# Altium schematic symbol library MS IMP Library.SchLib: 375 symbols (part 9 of 9)
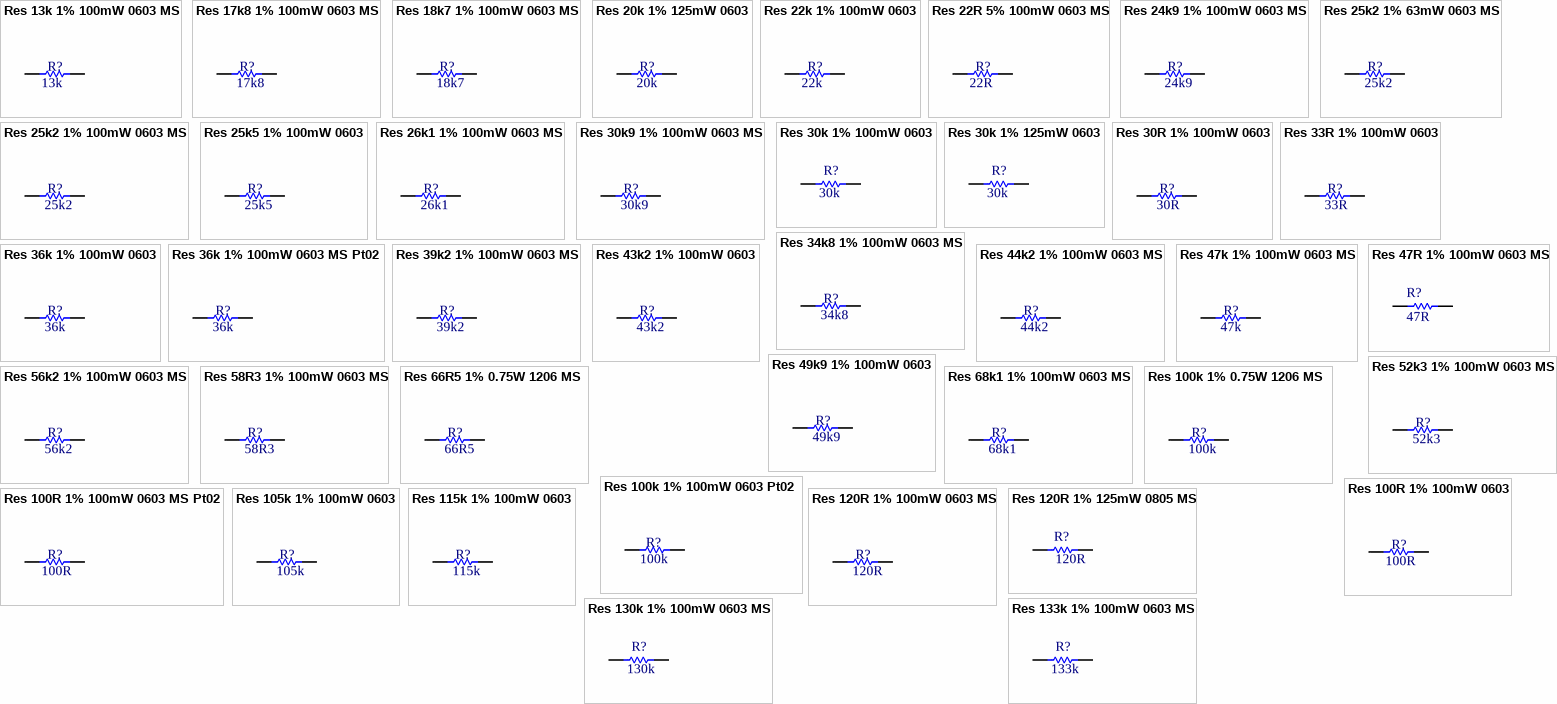
[diagram p30: symbols Res 13k 1% 100mW 0603 MS to Res 133k 1% 100mW 0603 MS]

## Res 115k 1% 100mW 0603
designator R?, comment Resistance: 115k  (hidden comment: Resistor)
Resistor 115k 1% 100mW 0603; Manufacturer: Yageo; Manufacturer Part Number: RMCF0603FT115K; Temperature Coefficient: ±100ppm/°C; Production Status: Active; Distributor: Digi-Key; Distributor Part Number: RMCF0603FT115KCT-ND; Last Revision Date: 19.10.2020.; Temperature Range: -55°C ~ +155°C; Mounting: SMD; ComponentLink1Description: Datasheet; ComponentLink1URL: https://www.seielect.com/catalog/sei-rmcf_rmcp.pdf; ComponentLink2Description: Distributor; ComponentLink2URL: https://www.digikey.com/en/products/detail/stackpole-electronics-inc/rmcf0603ft115k/1761225; ComponentLink3Description: Manufacturer; ComponentLink3URL: https://www.seielect.com/; Status: Not Checked; Power Rating: 100mW; Tolerance: ±1%; DB Parameter 1: 115k; DB Parameter 2: ±1%; DB Parameter 3: 100mW
footprint R0603L 0.45MM MS (Chip Resistor, Body 1.6x0.8mm, IPC High Density)
pins: 1, 2

## Res 120R 1% 100mW 0603 MS
designator R?, comment Resistance: 120R  (hidden comment: Resistor)
Resistor 120R 1% 100mW 0603; Manufacturer: TE Connectivity / Holsworthy; Manufacturer Part Number: CRGCQ0603F120R; Temperature Coefficient: ±100ppm/°C; Production Status: Active; Distributor: Mouser; Distributor Part Number: 279-CRGCQ0603F120R; Last Revision Date: 14.07.2022; Temperature Range: -55°C ~ +125°C; Mounting: SMD; ComponentLink1Description: Datasheet; ComponentLink1URL: https://www.te.com/usa-en/product-1-2176339-4.html; ComponentLink2Description: Distributor; ComponentLink2URL: https://eu.mouser.com/ProductDetail/TE-Connectivity-Holsworthy/CRGCQ0603F120R?qs=wUXugUrL1qyCBeA7N62GsQ%3D%3D; ComponentLink3Description: Manufacturer; ComponentLink3URL: https://www.te.com/usa-en/product-1-2176339-4.html; Status: Not Checked; Power Rating: 100mW; Tolerance: ±1%; DB Parameter 1: 120R; DB Parameter 2: ±1%; DB Parameter 3: 100mW
footprint R0603L 0.45MM MS (Chip Resistor, Body 1.6x0.8mm, IPC High Density)
pins: 1, 2

## Res 120R 1% 125mW 0805 MS
designator R?, comment Resistance: 120R  (hidden comment: Resistor)
Resistor  120R 125mW 0805; Manufacturer: Panasonic Electronic Components; Manufacturer Part Number: ERJ-P06J121V; Tolerance: ±1%; Production Status: Active; Distributor: Digi-Key; Distributor Part Number: P120ADCT-ND; Last Revision Date: 19.07.2021; Temperature Range: -55°C ~ +155°C; Mounting: SMD; ComponentLink1Description: Datasheet; ComponentLink1URL: https://industrial.panasonic.com/cdbs/www-data/pdf/RDO0000/AOA0000C331.pdf; ComponentLink2Description: Distributor; ComponentLink2URL: https://www.digikey.com/en/products/detail/panasonic-electronic-components/ERJ-P06J121V/525207; ComponentLink3Description: Manufacturer; ComponentLink3URL: https://na.industrial.panasonic.com/products/resistors/smd-chip-resistors/lineup/high-power-anti-surge-high-voltage/series/36033/model/38481; Status: Not Checked; Power Rating: 125mW; DB Parameter 1: 120R; DB Parameter 2: 125mW
footprint 0805 R 0.5mm MS (Resistor 0805 0.5mm)
pins: 1, 2

## Res 130k 1% 100mW 0603 MS
designator R?, comment Resistance: 130k  (hidden comment: Resistor)
Resistor 130k 1% 100mW 0603; Manufacturer: Panasonic Electronic Components; Manufacturer Part Number: RC0603FR-07130KL; Temperature Coefficient: ±100 PPM/°C; Production Status: Active; Distributor: Digi-Key; Distributor Part Number: 311-130KHRCT-ND; Last Revision Date: 28.09.2021; Temperature Range: -55°C ~ +155°C; Mounting: SMD; ComponentLink1Description: Datasheet; ComponentLink1URL: https://www.yageo.com/upload/media/product/productsearch/datasheet/rchip/PYu-RC_Group_51_RoHS_L_11.pdf; ComponentLink2Description: Distributor; ComponentLink2URL: https://www.digikey.com/en/products/detail/yageo/RC0603FR-07130KL/726935; ComponentLink3Description: Manufacturer; ComponentLink3URL: https://www.yageo.com/en/ProductSearch/PartNumberSearch?part_number=RC0603FR-07130KL; Status: Not Checked; Power Rating: 100mW; Tolerance: ±1%; DB Parameter 1: 130k; DB Parameter 2: 100mW; DB Parameter 3: ±1%
footprint R0603L 0.45MM MS (Chip Resistor, Body 1.6x0.8mm, IPC High Density)
pins: 1, 2

## Res 133k 1% 100mW 0603 MS
designator R?, comment Resistance: 133k  (hidden comment: Resistor)
Resistor 133k 1% 100mW 0603; Manufacturer: Panasonic; Manufacturer Part Number: ERJ-3EKF1333V; Temperature Coefficient: ±100 PPM/°C; Production Status: Active; Distributor: Mouser; Distributor Part Number: 667-ERJ-3EKF1333V; Last Revision Date: 16.11.2021; Temperature Range: -55°C ~ +155°C; Mounting: SMD; ComponentLink1Description: Datasheet; ComponentLink1URL: https://eu.mouser.com/datasheet/2/315/AOA0000C304-1149620.pdf; ComponentLink2Description: Distributor; ComponentLink2URL: https://eu.mouser.com/ProductDetail/Panasonic/ERJ-3EKF1333V?qs=%2Fha2pyFaduj1bDH1zHognWbTNWkdyroVjLsiVDy0i%2FB5Rdgfj5TXfw%3D%3D; ComponentLink3Description: Manufacturer; ComponentLink3URL: https://na.industrial.panasonic.com/products/resistors/smd-chip-resistors/lineup/chip-resistors/series/57494/model/66450; Status: Not Checked; Power Rating: 100mW; Tolerance: ±1%; DB Parameter 1: 133k; DB Parameter 2: 100mW; DB Parameter 3: ±1%
footprint R0603L 0.45MM MS (Chip Resistor, Body 1.6x0.8mm, IPC High Density)
pins: 1, 2

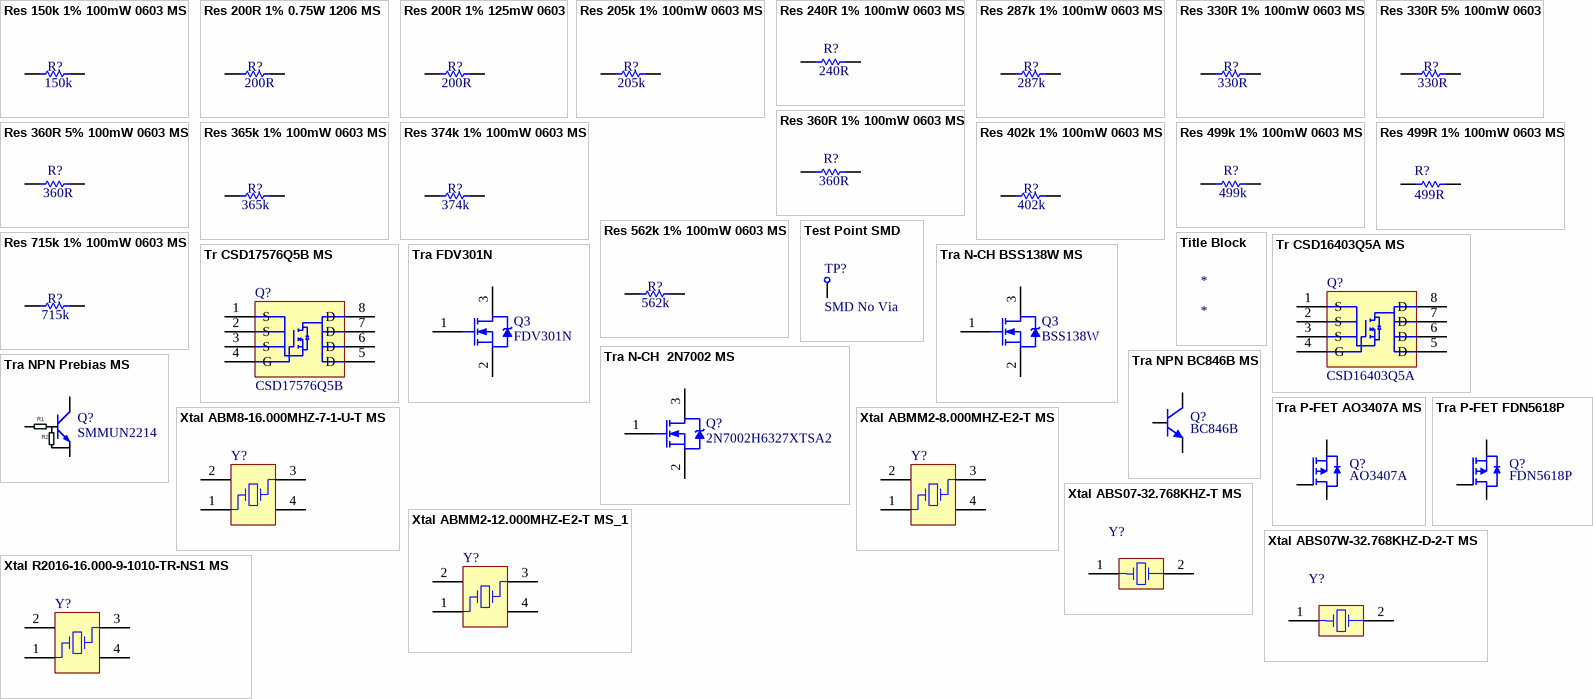
[diagram p22: symbols Res 150k 1% 100mW 0603 MS to Xtal R2016-16.000-9-1010-TR-NS1 MS]

## Res 150k 1% 100mW 0603 MS
designator R?, comment Resistance: 150k  (hidden comment: Resistor)
Resistor 150k 1% 100mW 0603; Manufacturer: YAGEO; Manufacturer Part Number: RC0603FR-07150KL; Temperature Coefficient: ±100ppm/°C; Production Status: Active; Distributor: Digi-Key; Distributor Part Number: 311-150KHRCT-ND; Last Revision Date: 11.09.2021; Temperature Range: -55°C ~ +155°C; Mounting: SMD; ComponentLink1Description: Datasheet; ComponentLink1URL: https://www.yageo.com/upload/media/product/productsearch/datasheet/rchip/PYu-RC_Group_51_RoHS_L_11.pdf; ComponentLink2Description: Distributor; ComponentLink2URL: https://www.digikey.com/en/products/detail/yageo/RC0603FR-07150KL/726959; ComponentLink3Description: Manufacturer; ComponentLink3URL: https://www.yageo.com/en/ProductSearch/PartNumberSearch?part_number=RC0603FR-07150KL; Status: Not Checked; Power Rating: 100mW; Tolerance: ±1%; DB Parameter 1: 150k; DB Parameter 2: ±1%; DB Parameter 3: 100mW
footprint R0603L 0.45MM MS (Chip Resistor, Body 1.6x0.8mm, IPC High Density)
pins: 1, 2

## Res 200R 1% 0.75W 1206 MS
designator R?, comment Resistance: 200R  (hidden comment: Resistor)
Resistor 200R 1% 0.75W 1206; Manufacturer: KOA Speer; Manufacturer Part Number: SG73P2BTTD2000F; Temperature Coefficient: ±200ppm/°C; Production Status: Active; Distributor: Mouser; Distributor Part Number: 660-SG73P2BTTD2000F; Last Revision Date: 13.05.2022; Temperature Range: -55°C ~ +155°C; Mounting: SMD; ComponentLink1Description: Datasheet; ComponentLink1URL: https://eu.mouser.com/datasheet/2/219/SG73P-1829847.pdf; ComponentLink2Description: Distributor; ComponentLink2URL: https://eu.mouser.com/ProductDetail/KOA-Speer/SG73P2BTTD2000F?qs=0U9fANxrh6nIXQk8S8CuRQ%3D%3D; ComponentLink3Description: Manufacturer; ComponentLink3URL: https://www.koaspeer.com/products/resistors/surge-current-thick-film/sg73p/; Status: Not Checked; Power Rating: 0.75W; Tolerance: ±1%; DB Parameter 1: 200R; DB Parameter 2: ±1%; DB Parameter 3: 0.75W
footprint 1206 R 0.6mm MS (Ceramic Capacitor 1206 0.55mm)
pins: 1, 2

## Res 200R 1% 125mW 0603
designator R?, comment Resistance: 200R  (hidden comment: Resistor)
Resistor 200R 1% 125mW 0603; Manufacturer: Stackpole Electronics Inc; Manufacturer Part Number: RNCP0603FTD200R; Temperature Coefficient: ±100ppm/°C; Production Status: Active; Distributor: Digi-Key; Distributor Part Number: RNCP0603FTD200RCT-ND; Last Revision Date: 02.11.2020.; Temperature Range: -55°C ~ +155°C; Mounting: SMD; ComponentLink1Description: Datasheet; ComponentLink1URL: https://www.seielect.com/catalog/sei-rncp.pdf; ComponentLink2Description: Distributor; ComponentLink2URL: https://www.digikey.com/en/products/detail/stackpole-electronics-inc/RNCP0603FTD200R/2240090; ComponentLink3Description: Manufacturer; ComponentLink3URL: http://seielect.com/Catalog/SEI-RNCP.pdf; Status: Not Checked; Power Rating: 125mW; Tolerance: ±1%; DB Parameter 1: 200R; DB Parameter 2: ±1%; DB Parameter 3: 125mW
footprint R0603L 0.45MM MS (Chip Resistor, Body 1.6x0.8mm, IPC High Density)
pins: 1, 2

## Res 205k 1% 100mW 0603 MS
designator R?, comment Resistance: 205k  (hidden comment: Resistor)
Resistor 205k 1% 100mW 0603; Manufacturer: Panasonic; Manufacturer Part Number: ERJ-3EKF2053V; Temperature Coefficient: 100ppm/°C; Production Status: Active; Distributor: Mouser; Distributor Part Number: 667-ERJ-3EKF2053V; Last Revision Date: 16.11.2021; Temperature Range: -55°C ~ +155°C; Mounting: SMD; ComponentLink1Description: Datasheet; ComponentLink1URL: https://eu.mouser.com/datasheet/2/315/AOA0000C304-1149620.pdf; ComponentLink2Description: Distributor; ComponentLink2URL: https://eu.mouser.com/ProductDetail/Panasonic/ERJ-3EKF2053V?qs=%2Fha2pyFaduhdoJMZbYKqsn11IM6BeaI8S6g2ThV0RFoa69kjcEtdIA%3D%3D; ComponentLink3Description: Manufacturer; ComponentLink3URL: https://na.industrial.panasonic.com/products/resistors/smd-chip-resistors/lineup/chip-resistors/series/57494/model/66550; Status: Not Checked; Power Rating: 100mW; Tolerance: ±1%; DB Parameter 1: 205k; DB Parameter 2: ±1%; DB Parameter 3: 100mW
footprint R0603L 0.45MM MS (Chip Resistor, Body 1.6x0.8mm, IPC High Density)
pins: 1, 2

## Res 240R 1% 100mW 0603 MS
designator R?, comment Resistance: 240R  (hidden comment: Resistor)
Resistor 240R 1% 100mW 0603; Manufacturer: Vishay Dale; Manufacturer Part Number: CRCW0603240RFKEAC; Temperature Coefficient: ±100 PPM/°C; Production Status: Active; Distributor: Digi-Key; Distributor Part Number: 541-5280-1-ND; Last Revision Date: 05.07.2021; Temperature Range: -55°C ~ +155°C; Mounting: SMD; ComponentLink1Description: Datasheet; ComponentLink1URL: https://www.vishay.com/docs/28773/crcwce3.pdf; ComponentLink2Description: Distributor; ComponentLink2URL: https://www.digikey.com/en/products/detail/vishay-dale/CRCW0603240RFKEAC/7924032; ComponentLink3Description: Manufacturer; ComponentLink3URL: https://www.vishay.com/docs/28773/crcwce3.pdf; Status: Not Checked; Power Rating: 100mW; Tolerance: ±1%; DB Parameter 1: 240R; DB Parameter 2: 100mW; DB Parameter 3: ±1%
footprint R0603L 0.45MM MS (Chip Resistor, Body 1.6x0.8mm, IPC High Density)
pins: 1, 2

## Res 287k 1% 100mW 0603 MS
designator R?, comment Resistance: 287k  (hidden comment: Resistor)
Resistor 287k 1% 100mW 0603; Manufacturer: YAGEO; Manufacturer Part Number: RC0603FR-07287KL; Temperature Coefficient: ±50ppm/°C; Production Status: Active; Distributor: Mouser; Distributor Part Number: 603-RC0603FR-07287KL; Last Revision Date: 16.11.2021; Temperature Range: -55°C ~ +155°C; Mounting: SMD; ComponentLink1Description: Datasheet; ComponentLink1URL: https://eu.mouser.com/datasheet/2/447/Yageo_03_18_2021_PYu_RC_Group_51_RoHS_L_11-2199992.pdf; ComponentLink2Description: Distributor; ComponentLink2URL: https://eu.mouser.com/ProductDetail/YAGEO/RC0603FR-07287KL?qs=%2Fha2pyFaduhXXNW8qwNUNmEPcCz5lQDN8jPkgpA4tQJI3Rhrrn%252BbEQ%3D%3D; ComponentLink3Description: Manufacturer; ComponentLink3URL: https://www.yageo.com/en/ProductSearch/PartNumberSearch?part_number=RC0603FR-07287KL; Status: Not Checked; Power Rating: 100mW; Tolerance: ±1%; DB Parameter 1: 287k; DB Parameter 2: ±1%; DB Parameter 3: 100mW
footprint R0603L 0.45MM MS (Chip Resistor, Body 1.6x0.8mm, IPC High Density)
pins: 1, 2

## Res 330R 1% 100mW 0603 MS
designator R?, comment Resistance: 330R  (hidden comment: Resistor)
Resistor 330R 1% 100mW 0603; Manufacturer: Yageo; Manufacturer Part Number: RC0603FR-07330RL; Temperature Coefficient: ±100ppm/°C; DB Parameter 2: ±1%±5%; Production Status: Active; Distributor: Digi-Key; Distributor Part Number: 311-330HRCT-ND; Last Revision Date: 26.07.2021; Temperature Range: -55°C ~ +155°C; Mounting: SMD; ComponentLink1Description: Datasheet; ComponentLink1URL: https://www.yageo.com/upload/media/product/productsearch/datasheet/rchip/PYu-RC_Group_51_RoHS_L_11.pdf; ComponentLink2Description: Distributor; ComponentLink2URL: https://www.digikey.com/en/products/detail/yageo/RC0603FR-07330RL/727162; ComponentLink3Description: Manufacturer; ComponentLink3URL: https://www.yageo.com/en/ProductSearch/PartNumberSearch?part_number=RC0603FR-07330RL; Status: Not Checked; Power Rating: 100mW; Tolerance: ±1%; DB Parameter 1: 330R; DB Parameter 3: 100mW
footprint R0603L 0.45MM MS (Chip Resistor, Body 1.6x0.8mm, IPC High Density)
pins: 1, 2

## Res 330R 5% 100mW 0603
designator R?, comment Resistance: 330R  (hidden comment: Resistor)
Resistor 330R 5% 100mW 0603; Manufacturer: Vishay Dale; Manufacturer Part Number: CRCW0603330RJNEA; Temperature Coefficient: ±200ppm/°C; Production Status: Active; Distributor: Digi-Key; Distributor Part Number: 541-330GCT-ND; Last Revision Date: 01.04.2021; Temperature Range: -55°C ~ +155°C; Mounting: SMD; ComponentLink1Description: Datasheet; ComponentLink1URL: https://www.vishay.com/docs/20035/dcrcwe3.pdf; ComponentLink2Description: Distributor; ComponentLink2URL: https://www.digikey.com/en/products/detail/vishay-dale/CRCW0603330RJNEA/1174217; ComponentLink3Description: Manufacturer; ComponentLink3URL: https://www.vishay.com/docs/20035/dcrcwe3.pdf; Status: Not Checked; Power Rating: 100mW; Tolerance: ±5%; DB Parameter 1: 330R; DB Parameter 2: ±5%; DB Parameter 3: 100mW
footprint R0603L 0.45MM MS (Chip Resistor, Body 1.6x0.8mm, IPC High Density)
pins: 1, 2

## Res 360R 1% 100mW 0603 MS
designator R?, comment Resistance: 360R  (hidden comment: Resistor)
Resistor 360R 1% 100mW 0603; Manufacturer: Vishay / Dale; Manufacturer Part Number: CRCW0603360RFKEAC; Temperature Coefficient: ±100 PPM/°C; Production Status: Active; Distributor: Mouser; Distributor Part Number: 71-CRCW0603360RFKEAC; Last Revision Date: 12.02.2022; Temperature Range: -55°C ~ +155°C; Mounting: SMD; ComponentLink1Description: Datasheet; ComponentLink1URL: https://www.vishay.com/docs/28773/crcwce3.pdf; ComponentLink2Description: Distributor; ComponentLink2URL: https://eu.mouser.com/ProductDetail/Vishay-Dale/CRCW0603360RFKEAC?qs=E3Y5ESvWgWMo1TsYrZMhqg%3D%3D; ComponentLink3Description: Manufacturer; ComponentLink3URL: https://www.vishay.com/product?docid=28773; Status: Not Checked; Power Rating: 100mW; Tolerance: ±1%; DB Parameter 1: 360R; DB Parameter 2: 100mW; DB Parameter 3: ±1%
footprint R0603L 0.45MM MS (Chip Resistor, Body 1.6x0.8mm, IPC High Density)
pins: 1, 2

## Res 360R 5% 100mW 0603 MS
designator R?, comment Resistance: 360R  (hidden comment: Resistor)
Resistor 360R 5% 100mW 0603; Manufacturer: Panasonic Electronic Components; Manufacturer Part Number: ERJ-U03J361V; Temperature Coefficient: ±200 PPM/°C; Production Status: Active; Distributor: Digi-Key; Distributor Part Number: 10-ERJ-U03J361VCT-ND; Last Revision Date: 05.07.2021; Temperature Range: -55°C ~ +155°C; Mounting: SMD; ComponentLink1Description: Datasheet; ComponentLink1URL: https://industrial.panasonic.com/cdbs/www-data/pdf/RDP0000/AOA0000C334.pdf; ComponentLink2Description: Distributor; ComponentLink2URL: https://www.digikey.com/en/products/detail/panasonic-electronic-components/ERJ-U03J361V/11631692; ComponentLink3Description: Manufacturer; ComponentLink3URL: https://industrial.panasonic.com/cdbs/www-data/pdf/RDP0000/AOA0000C334.pdf; Status: Not Checked; Power Rating: 100mW; Tolerance: ±5%; DB Parameter 1: 360R; DB Parameter 2: 100mW; DB Parameter 3: ±5%
footprint R0603L 0.45MM MS (Chip Resistor, Body 1.6x0.8mm, IPC High Density)
pins: 1, 2

## Res 365k 1% 100mW 0603 MS
designator R?, comment Resistance: 365k  (hidden comment: Resistor)
Resistor 365k 1% 100mW 0603; Manufacturer: Panasonic; Manufacturer Part Number: ERJ-3EKF3653V; Temperature Coefficient: ±50ppm/°C; Production Status: Active; Distributor: Mouser; Distributor Part Number: 667-ERJ-3EKF3653V; Last Revision Date: 16.11.2021; Temperature Range: -55°C ~ +155°C; Mounting: SMD; ComponentLink1Description: Datasheet; ComponentLink1URL: https://eu.mouser.com/datasheet/2/315/AOA0000C304-1149620.pdf; ComponentLink2Description: Distributor; ComponentLink2URL: https://eu.mouser.com/ProductDetail/Panasonic/ERJ-3EKF3653V?qs=%2Fha2pyFaduhBCYRheXPo44zXyiRqIgqJvpFvwylQObkmwff16c0Fgg%3D%3D; ComponentLink3Description: Manufacturer; ComponentLink3URL: https://na.industrial.panasonic.com/products/resistors/smd-chip-resistors/lineup/chip-resistors/series/57494/model/66702; Status: Not Checked; Power Rating: 100mW; Tolerance: ±1%; DB Parameter 1: 365k; DB Parameter 2: ±1%; DB Parameter 3: 100mW
footprint R0603L 0.45MM MS (Chip Resistor, Body 1.6x0.8mm, IPC High Density)
pins: 1, 2

## Res 374k 1% 100mW 0603 MS
designator R?, comment Resistance: 374k  (hidden comment: Resistor)
Resistor 374k 1% 100mW 0603; Manufacturer: YAGEO; Manufacturer Part Number: RT0603FRE07374KL; Temperature Coefficient: ±50ppm/°C; Production Status: Active; Distributor: Digi-Key; Distributor Part Number: 13-RT0603FRE07374KLCT-ND; Last Revision Date: 16.08.2021; Temperature Range: -55°C ~ +155°C; Mounting: SMD; ComponentLink1Description: Datasheet; ComponentLink1URL: https://www.yageo.com/upload/media/product/productsearch/datasheet/rchip/PYu-RT_1-to-0.01_RoHS_L_12.pdf; ComponentLink2Description: Distributor; ComponentLink2URL: https://www.digikey.com/en/products/detail/yageo/RT0603FRE07374KL/5929166; ComponentLink3Description: Manufacturer; ComponentLink3URL: https://www.yageo.com/en/ProductSearch/PartNumberSearch?part_number=RT0603FRE07374KL; Status: Not Checked; Power Rating: 100mW; Tolerance: ±1%; DB Parameter 1: 374k; DB Parameter 2: ±1%; DB Parameter 3: 100mW
footprint R0603L 0.45MM MS (Chip Resistor, Body 1.6x0.8mm, IPC High Density)
pins: 1, 2

## Res 402k 1% 100mW 0603 MS
designator R?, comment Resistance: 402k  (hidden comment: Resistor)
Resistor 402k 1% 100mW 0603; Manufacturer: YAGEO; Manufacturer Part Number: RC0603FR-07402KL; Temperature Coefficient: ±100ppm/°C; Production Status: Active; Distributor: Digi-Key; Distributor Part Number: 311-402KHRCT-ND; Last Revision Date: 28.11.2022; Temperature Range: -55°C ~ +155°C; Mounting: SMD; ComponentLink1Description: Datasheet; ComponentLink1URL: https://www.yageo.com/upload/media/product/productsearch/datasheet/rchip/PYu-RC_Group_51_RoHS_L_12.pdf; ComponentLink2Description: Distributor; ComponentLink2URL: https://www.digikey.com/en/products/detail/yageo/RC0603FR-07402KL/727223; ComponentLink3Description: Manufacturer; ComponentLink3URL: https://www.yageo.com/en/ProductSearch/PartNumberSearch?part_number=RC0603FR-07402KL; Status: Not Checked; Power Rating: 100mW; Tolerance: ±1%; DB Parameter 1: 402k; DB Parameter 2: ±1%; DB Parameter 3: 100mW
footprint R0603L 0.45MM MS (Chip Resistor, Body 1.6x0.8mm, IPC High Density)
pins: 1, 2

## Res 499k 1% 100mW 0603 MS
designator R?, comment Resistance: 499k  (hidden comment: Resistor)
Resistor 499k 1% 100mW 0603; Manufacturer: Panasonic Electronic Components; Manufacturer Part Number: ERJ-3EKF4993V; Temperature Coefficient: ±100 PPM/°C; Production Status: Active; Distributor: Digi-Key; Distributor Part Number: P499KHCT-ND; Last Revision Date: 11.07.2021; Temperature Range: -55°C ~ +155°C; Mounting: SMD; ComponentLink1Description: Datasheet; ComponentLink1URL: https://industrial.panasonic.com/cdbs/www-data/pdf/RDA0000/AOA0000C304.pdf; ComponentLink2Description: Distributor; ComponentLink2URL: https://www.digikey.com/en/products/detail/panasonic-electronic-components/ERJ-3EKF4993V/196382; ComponentLink3Description: Manufacturer; ComponentLink3URL: https://na.industrial.panasonic.com/search/Search%20Options/ERJ-3EKF4993V; Status: Not Checked; Power Rating: 100mW; Tolerance: ±1%; DB Parameter 1: 499k; DB Parameter 2: 100mW; DB Parameter 3: ±1%
footprint R0603L 0.45MM MS (Chip Resistor, Body 1.6x0.8mm, IPC High Density)
pins: 1, 2

## Res 499R 1% 100mW 0603 MS
designator R?, comment Resistance: 499R  (hidden comment: Resistor)
Resistor 499R 1% 100mW 0603; Manufacturer: Vishay Dale; Manufacturer Part Number: CRCW0603499RFKEAC; Temperature Coefficient: ±100 PPM/°C; Production Status: Active; Distributor: Digi-Key; Distributor Part Number: 541-3986-1-ND; Last Revision Date: 13.07.2021; Temperature Range: -55°C ~ +155°C; Mounting: SMD; ComponentLink1Description: Datasheet; ComponentLink1URL: https://www.vishay.com/docs/28773/crcwce3.pdf; ComponentLink2Description: Distributor; ComponentLink2URL: https://www.digikey.com/en/products/detail/vishay-dale/CRCW0603499RFKEAC/7928408; ComponentLink3Description: Manufacturer; ComponentLink3URL: https://www.vishay.com/docs/28773/crcwce3.pdf; Status: Not Checked; Power Rating: 100mW; Tolerance: ±1%; DB Parameter 2: ±1%; DB Parameter 3: 100mW; DB Parameter 1: 499R
footprint R0603L 0.45MM MS (Chip Resistor, Body 1.6x0.8mm, IPC High Density)
pins: 1, 2

## Res 562k 1% 100mW 0603 MS
designator R?, comment Resistance: 562k  (hidden comment: Resistor)
Resistor 562k 1% 100mW 0603; Manufacturer: Stackpole Electronics Inc; Manufacturer Part Number: RMCF0603FT562K; Temperature Coefficient: ±100ppm/°C; Production Status: Active; Distributor: Digi-Key; Distributor Part Number: RMCF0603FT562KCT-ND; Last Revision Date: 16.06.2021; Temperature Range: -55°C ~ +155°C; Mounting: SMD; ComponentLink1Description: Datasheet; ComponentLink1URL: https://www.seielect.com/Catalog/SEI-RMCF_RMCP.pdf; ComponentLink2Description: Distributor; ComponentLink2URL: https://www.digikey.com/en/products/detail/stackpole-electronics-inc/RMCF0603FT562K/1760874; ComponentLink3Description: Manufacturer; ComponentLink3URL: https://www.seielect.com/Catalog/SEI-RMCF_RMCP.pdf; Status: Not Checked; Power Rating: 100mW; Tolerance: ±1%; DB Parameter 1: 562k; DB Parameter 2: ±1%; DB Parameter 3: 100mW
footprint R0603L 0.45MM MS (Chip Resistor, Body 1.6x0.8mm, IPC High Density)
pins: 1, 2

## Res 715k 1% 100mW 0603 MS
designator R?, comment Resistance: 715k  (hidden comment: Resistor)
Resistor  715k 1% 100mW 0603; Manufacturer: Panasonic Electronic Components; Manufacturer Part Number: ERJ-3EKF7153V; Temperature Coefficient: ±100ppm/°C; Production Status: Active; Distributor: Digi-Key; Distributor Part Number: P715KHCT-ND; Last Revision Date: 16.08.2021; Temperature Range: -55°C ~ +155°C; Mounting: SMD; ComponentLink1Description: Datasheet; ComponentLink1URL: https://industrial.panasonic.com/cdbs/www-data/pdf/RDA0000/AOA0000C304.pdf; ComponentLink2Description: Distributor; ComponentLink2URL: https://www.digikey.com/en/products/detail/panasonic-electronic-components/ERJ-3EKF7153V/196464; ComponentLink3Description: Manufacturer; ComponentLink3URL: https://industrial.panasonic.com/sa/products/pt/general-purpose-chip-resistors/models/ERJ3EKF7153V; Status: Not Checked; Power Rating: 100mW; Tolerance: ±1%; DB Parameter 1: 715k; DB Parameter 2: ±1%; DB Parameter 3: 100mW
footprint R0603L 0.45MM MS (Chip Resistor, Body 1.6x0.8mm, IPC High Density)
pins: 1, 2

## Test Point SMD
designator TP?, comment DB Parameter 3: SMD No Via  (hidden comment: Test Point Comment)  (no BOM)
Test Point SMD 1.2 mm No Via; DB Parameter 2: 1.2mm; Last Revision Date: 29.01.2018.; Package: N/A; Mounting: N/A; DB Parameter 1: *
footprint TP SMD 1.2mm MS (Test Point SMD 1.2mm)
footprint TP SMD_VIA 1.2mm MS (Test Point SMD 1.2mm)
footprint MT_Hole_2mm_1mm
pins: 1

## Title Block
designator *

## Tr CSD16403Q5A MS
designator Q?, comment CSD16403Q5A
MOSFET N-CH 25V 28A/100A 8VSON; Manufacturer: Texas Instruments; Vgs: +16/-12; DB Parameter 3: 2.9mR; Production Status: Active; Distributor: Digi-Key; Distributor Part Number: 296-24249-1-ND; Last Revision Date: 02.04.2021; Temperature Range: -40°C ~ +85°C; Mounting: SMD; ComponentLink1Description: Datasheet; ComponentLink1URL: https://www.ti.com/lit/ds/symlink/csd16403q5a.pdf?HQS=dis-dk-null-digikeymode-dsf-pf-null-wwe&ts=1617373452997; ComponentLink2Description: Distributor; ComponentLink2URL: https://www.digikey.com/en/products/detail/texas-instruments/CSD16403Q5A/2038304?s=N4IgTCBcDaIMIGUAiBGAbAFgAwGYCKArAIIgC6AvkA; ComponentLink3Description: Manufacturer; ComponentLink3URL: https://www.ti.com/product/CSD16403Q5A; Status: Not Checked; Vds: 25V; DB Parameter 1: CSD16403Q5A; DB Parameter 2: 25V; Manufacturer Part Number: CSD16403Q5A; Rdson: 2.9mR
footprint DQJ8 MS
pins: 1 S, 2 S, 3 S, 4 G, 5 D, 6 D, 7 D, 8 D

## Tr CSD17576Q5B MS
designator Q?, comment CSD17576Q5B
MOSFET N-CH 30V 100A 8VSON; Manufacturer: Texas Instruments; Vds: 30; Vgs: +/-20V; DB Parameter 3: 2.4mR; Production Status: Active; Distributor: Digi-Key; Distributor Part Number: 296-43635-1-ND; Last Revision Date: 11.10.2022; Temperature Range: -55°C ~ +150°C; Mounting: SMD; ComponentLink1Description: Datasheet; ComponentLink1URL: https://www.ti.com/lit/ds/symlink/csd17576q5b.pdf?ts=1668068230097; ComponentLink2Description: Distributor; ComponentLink2URL: https://www.digikey.com/en/products/detail/texas-instruments/CSD17576Q5B/4914144; ComponentLink3Description: Manufacturer; ComponentLink3URL: https://www.ti.com/product/CSD17576Q5B#cad-cae-symbols; Status: Not Checked; DB Parameter 1: CSD17576Q5B; DB Parameter 2: 30V; Manufacturer Part Number: CSD17576Q5B; Rdson: 2.4mR
footprint DNK8 MS
pins: 1 S, 2 S, 3 S, 4 G, 5 D, 6 D, 7 D, 8 D

## Tra FDV301N
designator Q3, comment FDV301N
N-Channel Digital FET; Manufacturer: ON Semiconductor; Id max: 220mA; Vgs th: 0.85V; Vds max: 25V; Vgs max: ±8V; Rds: 5R; DB Parameter 1: 0.22A; Production Status: Active; Distributor: Mouser; Distributor Part Number: 512-FDV301N; Manufacturer Part Number: FDV301N; Datasheet: https://www.onsemi.com/pub/Collateral/FDV301N-D.PDF; Distributor URL: https://eu.mouser.com/ProductDetail/ON-Semiconductor-Fairchild/FDV301N?qs=%2Fha2pyFadujGCw1%2Ff8UEN3tBxQ8%2FpTR6Z3L0GXnFZsvgUqKqaebFiQ%3D%3D; Manufacturer URL: https://www.onsemi.com/products/discretes-drivers/mosfets/fdv301n; Last Revision Date: 23.10.2020; Temperature Range: -55°C ~ +150°C; Package: SOT-23; Mounting: SMD; DB Parameter 2: 0.85V; DB Parameter 3: 5R
footprint SOT-23 MS (SOT-23)
pins: 1 G, 2 S, 3 D
1 alternate drawing of the same symbol

## Tra N-CH  2N7002 MS
designator Q?, comment 2N7002H6327XTSA2
MOSFET N-Ch 60V 300mA SOT-23-3; Manufacturer: Infineon Technologies; Vgs th: 1.5V; Vgs max: 20V; Rds: 1R6; DB Parameter 1: 0.3A; Production Status: Active; Distributor: Mouser; Distributor Part Number: 726-2N7002H6327XTSA2; Manufacturer Part Number: 2N7002H6327XTSA2; Last Revision Date: 16.08.2022; Temperature Range: -55°C ~ +150°C; Id max: 300mA; Vds max: 60V; Mounting: SMD; DB Parameter 2: 1.5V; DB Parameter 3: 1R6; ComponentLink1Description: Datasheet; ComponentLink1URL: https://www.infineon.com/dgdl/Infineon-2N7002-DS-v02_04-en.pdf?fileId=db3a304319bc939a0119c2a9461e79e6; ComponentLink2Description: Distributor; ComponentLink2URL: https://eu.mouser.com/ProductDetail/Infineon-Technologies/2N7002H6327XTSA2?qs=OwbwYO03UsKhD7unS2LllQ%3D%3D; ComponentLink3Description: Manufacturer; ComponentLink3URL: https://www.infineon.com/cms/en/product/power/mosfet/n-channel/2n7002/
footprint SOT-23 Onsemi MS (SOT-23)
pins: 1 G, 2 S, 3 D
1 alternate drawing of the same symbol

## Tra N-CH BSS138W MS
designator Q3, comment BSS138W
MOSFET N-CH 50V 210MA SC70; Manufacturer: ON Semiconductor; Vgs th: 1.3V; Vgs max: 1.5V; Rds: 3.5R; DB Parameter 1: 0.21A; Production Status: Active; Distributor: Digi-Key; Distributor Part Number: BSS138WCT-ND; Manufacturer Part Number: BSS138W; Last Revision Date: 30.07.2021; Temperature Range: -55°C ~ +150°C; Id max: 210mA; Vds max: 50V; Mounting: SMD; DB Parameter 2: 1.3V; DB Parameter 3: 3.5R; ComponentLink1Description: Datasheet; ComponentLink1URL: https://www.onsemi.com/pdf/datasheet/bss138w-d.pdf; ComponentLink2Description: Distributor; ComponentLink2URL: https://www.digikey.com/en/products/detail/on-semiconductor/BSS138W/2804105; ComponentLink3Description: Manufacturer; ComponentLink3URL: https://www.onsemi.com/products/discretes-drivers/mosfets/bss138
footprint SOT65P210X110-3N
pins: 1 G, 2 S, 3 D
1 alternate drawing of the same symbol

## Tra NPN BC846B MS
designator Q?, comment BC846B
65V, 100mA NPN general-purpose transistor; Manufacturer: Nexperia; Manufacturer Part Number: BC846B,215; Power Rating: 250mW; hfe: 200 ~ 450; Production status: Active; Distributor: Mouser; Distributor Part Number: 771-BC846B-T/R; Last Revision Date: 03.08.2021; Temperature Range: -65°C ~ +150°C; Mounting: SMD; ComponentLink1Description: Datasheet; ComponentLink1URL: https://eu.mouser.com/datasheet/2/916/BC846X_SER-2937540.pdf; ComponentLink2Description: Distributor; ComponentLink2URL: https://eu.mouser.com/ProductDetail/Nexperia/BC846B215/?qs=sGAEpiMZZMshyDBzk1%2FWi7dklbCN21lX08PuvlTNczo%3D; ComponentLink3Description: Manufacturer; ComponentLink3URL: https://www.nexperia.com/products/bipolar-transistors/general-purpose-and-low-vcesat-bipolar-transistors/single-bipolar-transistors/single-bipolar-transistors-100-v/BC846B.html; Status: Checked; Ic max: 100mA; Vceo: 65V; DB Parameter 1: 100mA; DB Parameter 2: 65V
footprint SOT-23 NXP MS (SOT-23)
pins: 1 B, 2 E, 3 C

## Tra NPN Prebias MS
designator Q?, comment SMMUN2214
TRANS PREBIAS NPN 50V SOT23; Manufacturer: ON Semiconductor; Manufacturer Part Number: SMMUN2214LT1G; Ic Max: 100mA; Resistor Base: 10k; Resistor Emitter Base: 47k; hFE Min: 80; Production Status: Active; Power Rating: 246mW; Vces: 0.25V; Distributor: Digi-Key; Distributor Part Number: SMMUN2214LT1GOSCT-ND; Last Revision Date: 29.07.2021; Temperature Range: -55°C ~ +150°C; Vcebo: 50V; Mounting: SMD; DB Parameter 1: 10k; DB Parameter 2: 47k; DB Parameter 3: 100mA; ComponentLink1Description: Datasheet; ComponentLink1URL: https://www.onsemi.com/pdf/datasheet/dtc114y-d.pdf; ComponentLink2Description: Distributor; ComponentLink2URL: https://www.digikey.com/en/products/detail/on-semiconductor/SMMUN2214LT1G/3062798; ComponentLink3Description: Manufacturer; ComponentLink3URL: https://www.onsemi.com/products/discretes-drivers/digital-transistors-brts/mmun2214l
footprint SOT-23 MS (SOT-23)
pins: 1, 2, 3
1 alternate drawing of the same symbol
text: R1; R2

## Tra P-FET AO3407A MS
designator Q?, comment AO3407A
MOSFET P-CH 30V 4.3A SOT23-3L; Manufacturer: Alpha & Omega Semiconductor Inc.; Power Rating: 1.4W; Id max: -4.3A; Vgs th: -3V; Vds max: -30V; Vgs max: ±20V; Rds: 0.078R; Production Status: Active; Distributor: Digi-Key; Distributor Part Number: 785-1006-1-ND; Manufacturer Part Number: AO3407A; Last Revision Date: 29.07.2021; Temperature Range: -55°C ~ +150°C; Mounting: SMD; ComponentLink1Description: Datasheet; ComponentLink1URL: http://aosmd.com/res/data_sheets/AO3407A.pdf; ComponentLink2Description: Distributor; ComponentLink2URL: https://www.digikey.com/en/products/detail/alpha-omega-semiconductor-inc/AO3407A/1855948; ComponentLink3Description: Manufacturer; ComponentLink3URL: http://www.aosmd.com/search?pn=AO3407A; Status: Not Checked; DB Parameter 1: AO3407A; DB Parameter 2: -4.3A; DB Parameter 3: 0.078R
footprint SOT95P237X112-3N MS
pins: 1 G, 2 S, 3 D
1 alternate drawing of the same symbol

## Tra P-FET FDN5618P
designator Q?, comment FDN5618P
60V P-Channel Logic Level PowerTrench MOSFET; Manufacturer: ON Semiconductor; Power Rating: 460mW; Id max: -1.25A; Vgs th: -1.6V; Vds max: -60V; Vgs max: ±20V; Rds: 0R185; Distributor: Mouser; Distributor Part Number: 512-FDN5618P; Manufacturer Part Number: FDN5618P; Last Revision Date: 22.07.2020.; Temperature Range: -55°C ~ +150°C; Mounting: SMD; ComponentLink1Description: Datasheet; ComponentLink1URL: https://www.onsemi.com/pub/Collateral/FDN5618P-D.PDF; ComponentLink2Description: Distributor; ComponentLink2URL: https://eu.mouser.com/ProductDetail/ON-Semiconductor-Fairchild/FDN5618P?qs=%2Fha2pyFaduilq7wcwBjA06HBUTDplevrgq41Tw%252BMGcs%3D; ComponentLink3Description: Manufacturer; ComponentLink3URL: https://www.onsemi.com/products/discretes-drivers/mosfets/fdn5618p; Status: Checked
footprint SOT-23
pins: 1 G, 2 S, 3 D
1 alternate drawing of the same symbol

## Xtal ABM8-16.000MHZ-7-1-U-T MS
designator Y?, comment Crystal  (value not drawn)
Crystals CRYSTAL 16.0000MHZ 18PF SMD; Manufacturer: ABRACON; Manufacturer Part Number: ABM8-16.000MHZ-7-1-U-T; Tolerance: 50ppm; ESR: 200R; Frequency: 16MHz; Frequency Stability: 10ppm; Distributor: Mouser; Distributor Part Number: 815-ABM8-16-7-1-U-T; Last Revision Date: 12.07.2021; Temperature Range: -10°C ~ +60°C; Mounting: SMD; ComponentLink1Description: Datasheet; ComponentLink1URL: https://eu.mouser.com/datasheet/2/3/abm8-1384678.pdf; ComponentLink2Description: Distributor; ComponentLink2URL: https://eu.mouser.com/ProductDetail/ABRACON/ABM8-16000MHZ-7-1-U-T?qs=2WXlatMagcGoxuVRSa5gSQ%3D%3D; ComponentLink3Description: Manufacturer; ComponentLink3URL: https://abracon.com/parametric/crystals/ABM8-16.000MHZ-7-1-U-T; Status: Not Checked; Load Capacitance: 18pF; DB Parameter 1: 16MHz; DB Parameter 2: 18pF; DB Parameter 3: 50ppm; Populated: *
footprint ABM816000MHZ71UT
pins: 1 OSC1, 2 GND, 3 OSC2, 4 GND

## Xtal ABMM2-8.000MHZ-E2-T MS
designator Y?, comment Crystal  (value not drawn)
CRYSTAL 8.0000MHZ 18PF SMD; Manufacturer: ABRACON; Manufacturer Part Number: ABMM2-8.000MHZ-E2-T; Tolerance: ±20ppm; ESR: 50R; Frequency: 8MHz; Distributor: Digi-Key; Distributor Part Number: 535-9628-1-ND; Last Revision Date: 07.06.2021; Temperature Range: -20°C ~ +70°C; Mounting: SMD; ComponentLink1Description: Datasheet; ComponentLink1URL: https://abracon.com/Resonators/ABMM2.pdf; ComponentLink2Description: Distributor; ComponentLink2URL: https://www.digikey.com/en/products/detail/abracon-llc/ABMM2-8-000MHZ-E2-T/1236945?s=N4IgTCBcDaIIICECySwFoAcA6ADHpAEgFpoCi6AKiALoC%2BQA; ComponentLink3Description: Manufacturer; ComponentLink3URL: https://abracon.com/parametric/crystals/ABMM2-8.000MHZ-E2-T; Status: Not Checked; Load Capacitance: 18pF; DB Parameter 1: 8MHz; DB Parameter 2: 18pF; DB Parameter 3: ±20ppm; Frequency Stability: ±20ppm
footprint ABMM2
pins: 1 OSC1, 2 COM, 3 COM, 4 OSC2

## Xtal ABMM2-12.000MHZ-E2-T MS_1
designator Y?, comment Crystal  (value not drawn)
CRYSTAL 12.0000MHZ 18PF SMD; Manufacturer: ABRACON; Manufacturer Part Number: ABMM2-12.000MHZ-E2-T; Tolerance: ±20ppm; ESR: 50R; Frequency: 12MHz; Distributor: Digi-Key; Distributor Part Number: 535-9631-1-ND; Last Revision Date: 28.07.2021; Temperature Range: -20°C ~ +70°C; Mounting: SMD; ComponentLink1Description: Datasheet; ComponentLink1URL: https://abracon.com/Resonators/ABMM2.pdf; ComponentLink2Description: Distributor; ComponentLink2URL: https://www.digikey.com/en/products/detail/abracon-llc/ABMM2-12-000MHZ-E2-T/1236948?s=N4IgTCBcDaIIICECySwFoCMEC6BfIA; ComponentLink3Description: Manufacturer; ComponentLink3URL: https://abracon.com/parametric/crystals/ABMM2-12.000MHZ-E2-T; Status: Not Checked; Load Capacitance: 18pF; DB Parameter 1: 12MHz; DB Parameter 2: 18pF; DB Parameter 3: ±20ppm; Frequency Stability: ±20ppm
footprint ABMM2
pins: 1 OSC1, 2 COM, 3 COM, 4 OSC2

## Xtal ABS07-32.768KHZ-T MS
designator Y?, comment Crystal  (value not drawn)
Crystal 32.768K HZ 12.5PF SMD; Manufacturer: Abracon LLC; Manufacturer Part Number: ABS07-32.768KHZ-T; Tolerance: ±20ppm; Distributor: Digi-Key; Distributor Part Number: 535-9542-1-ND; Last Revision Date: 29.07.2021; Temperature Range: -40°C ~ +85°C; Mounting: SMD; ComponentLink1Description: Datasheet; ComponentLink1URL: https://abracon.com/Resonators/ABS07.pdf; ComponentLink2Description: Distributor; ComponentLink2URL: https://www.digikey.at/product-detail/en/abracon-llc/ABS07-32-768KHZ-T/535-9542-1-ND/1237009; ComponentLink3Description: Manufacturer; ComponentLink3URL: https://abracon.com/parametric/crystals/ABS07-32.768KHZ-T; Status: Not Checked; Load Capacitance: 12.5pF; Frequency: 32.768kHz; DB Parameter 1: 32.768kHz; DB Parameter 2: 12.5pF; DB Parameter 3: ±20ppm; Frequency Stability: -
footprint ABS07W32768kHzD2T
pins: 1 OSC1, 2 COM

## Xtal ABS07W-32.768KHZ-D-2-T MS
designator Y?, comment Crystal  (value not drawn)
Crystal 32.768K HZ 3.0PF SMD; Manufacturer: ABRACON; Manufacturer Part Number: ABS07W-32.768KHZ-D-2-T; Tolerance: ±20ppm; ESR: 55k; Load Capacitance: 3pF; Frequency Stability: -200ppm; Distributor: Mouser; Distributor Part Number: 815-ABS07W32.768KD2T; Last Revision Date: 07.06.2021; Temperature Range: -40°C ~ +85°C; Mounting: SMD; ComponentLink1Description: Datasheet; ComponentLink1URL: https://eu.mouser.com/datasheet/2/3/ABS07W-2303494.pdf; ComponentLink2Description: Distributor; ComponentLink2URL: https://eu.mouser.com/ProductDetail/ABRACON/ABS07W-32768KHZ-D-2-T?qs=gt1LBUVyoHnPlJChh1cwxw%3D%3D; ComponentLink3Description: Manufacturer; ComponentLink3URL: https://abracon.com/parametric/crystals/ABS07W-32.768KHZ-D-2-T; Status: Not Checked; Frequency: 32.768kHz; DB Parameter 1: 32.768kHz; DB Parameter 2: 3pF; DB Parameter 3: ±20ppm
footprint ABS07W32768kHzD2T
pins: 1 OSC1, 2 COM

## Xtal R2016-16.000-9-1010-TR-NS1 MS
designator Y?, comment Crystal  (value not drawn)
CRYSTAL 16.0000MHZ 9PF SMD; Manufacturer: Raltron Electronics; Manufacturer Part Number: R2016-16.000-9-1010-TR-NS1; ESR: 200R; Frequency: 16MHz; DB Parameter 3: ±10ppm; Distributor: Digi-Key; Distributor Part Number: 2151-R2016-16.000-9-1010-TR-NS1CT-ND; Last Revision Date: 21.01.2022; Temperature Range: -10°C ~ +60°C; Mounting: SMD; ComponentLink1Description: Datasheet; ComponentLink1URL: https://www.raltron.com/webproducts/specs/CRYSTAL/R2016-16.000-9-1010-TR-NS1.pdf; ComponentLink2Description: Distributor; ComponentLink2URL: https://www.digikey.com/en/products/detail/raltron-electronics/R2016-16-000-9-1010-TR-NS1/10272414?s=N4IgTCBcDaIEpgAwEYBsBaNA6Rv0E5MVF0AVOdAOQGVkQBdAXyA; ComponentLink3Description: Manufacturer; ComponentLink3URL: https://www.raltron.com/webproducts/specs/CRYSTAL/R2016-16.000-9-1010-TR-NS1.pdf; Status: Not Checked; Load Capacitance: 9pF; DB Parameter 1: 16MHz; DB Parameter 2: 9pF; Frequency Stability: ±10ppm
footprint ABM11AIG20000MHZ81ZT
pins: 1 OSC1, 2 GND, 3 OSC2, 4 GND